# Altium schematic symbol library 气象传感器.SchLib: 4 symbols
Pins are listed as number, name and electrical type; pins without a type are passive.

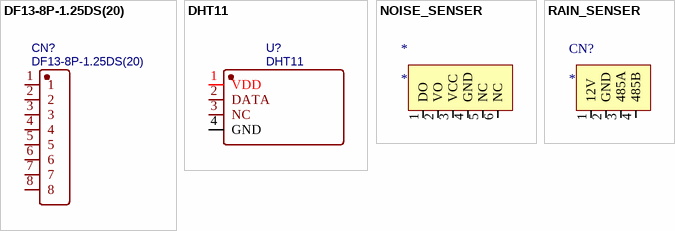
[diagram p0: symbols DF13-8P-1.25DS(20) to RAIN_SENSER]

## DF13-8P-1.25DS(20)
designator CN?
BOM_Manufacturer: HRS(Hirose); Contributor: LCSC; BOM_Supplier: LCSC; BOM_Supplier Part: C597874; BOM_Manufacturer Part: DF13-8P-1.25DS(20); BOM_JLCPCB Part Class: Extended Part; spicePre: C; spiceSymbolName: DF13-8P-1.25DS(20)
footprint CONN-TH_8P-P1.25_DF13-8P-1.25DS-20
pins: 1, 2, 3, 4, 5, 6, 7, 8

## DHT11
designator U?
BOM_Manufacturer: Aosong (Guangzhou) Elec; Contributor: LCSC; BOM_Supplier: LCSC; BOM_Supplier Part: C117051; BOM_Manufacturer Part: DHT11; BOM_JLCPCB Part Class: Extended Part; spicePre: U; spiceSymbolName: DHT11
footprint DHT11
pins: 1 VDD, 2 DATA, 3 NC, 4 GND

## NOISE_SENSER
designator *
footprint NOISE_SENSER (噪声传感器)
pins: 1 DO, 2 VO, 3 VCC, 4 GND, 5 NC, 6 NC

## RAIN_SENSER
designator CN?
雨量传感器接口
footprint RAIN_SENSER
pins: 1 12V, 2 GND, 3 485A, 4 485B